# Altium integrated library lib.IntLib: 2 symbols
Pins are listed as number, name and electrical type; pins without a type are passive.

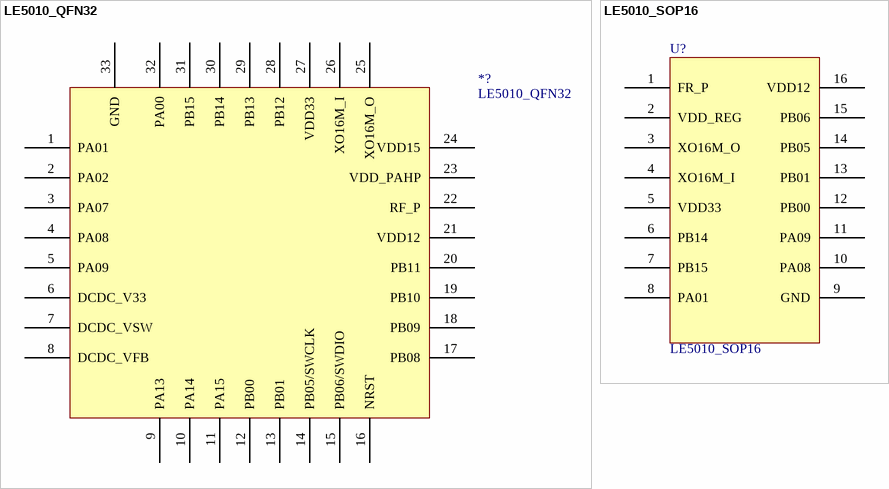
[diagram p0: symbols LE5010_QFN32 to LE5010_SOP16]

## LE5010_QFN32
designator *?
footprint VQFN-32_L4.0-W4.0-P0.40-TL-EP
footprint VQFN-32_L4.0-W4.0-P0.40-TL-EP
pins: 1 PA01, 2 PA02, 3 PA07, 4 PA08, 5 PA09, 6 DCDC_V33, 7 DCDC_VSW, 8 DCDC_VFB, 9 PA13, 10 PA14, 11 PA15, 12 PB00, 13 PB01, 14 PB05/SWCLK, 15 PB06/SWDIO, 16 NRST, 17 PB08, 18 PB09, 19 PB10, 20 PB11, 21 VDD12, 22 RF_P, 23 VDD_PAHP, 24 VDD15, 25 XO16M_O, 26 XO16M_I, 27 VDD33, 28 PB12, 29 PB13, 30 PB14, 31 PB15, 32 PA00, 33 GND

## LE5010_SOP16
designator U?
footprint SOP-16_L10.0-W3.9-P1.27-LS6.0-BL
pins: 1 FR_P, 2 VDD_REG, 3 XO16M_O, 4 XO16M_I, 5 VDD33, 6 PB14, 7 PB15, 8 PA01, 9 GND, 10 PA08, 11 PA09, 12 PB00, 13 PB01, 14 PB05, 15 PB06, 16 VDD12